# EAGLE library part AD7175-2BRUZ (library AD7175-2BRUZ)
Analog Devices AD7175-2BRUZ, 24 bit DSP, Microwire, QSPI, SPI ADC, Dual Differential Input, 24-Pin TSSOP Source: Datasheet <https://www.analog.com/media/en/technical-documentation/data-sheets/ad7175-2.pdf>
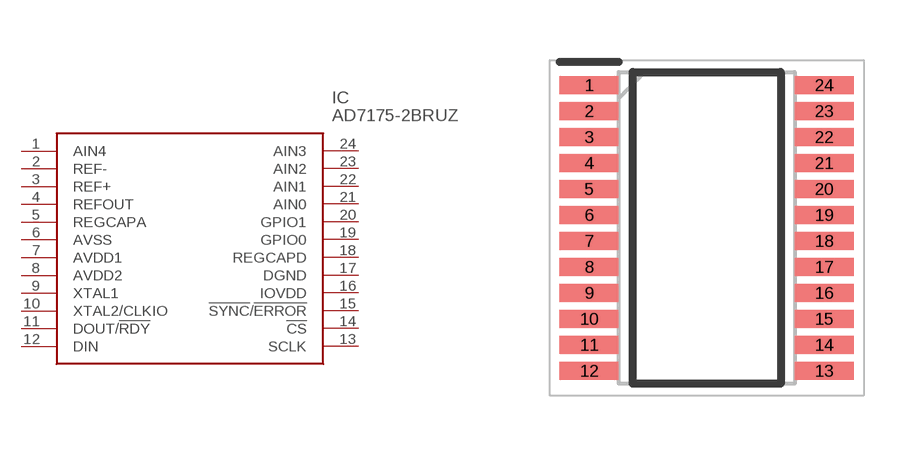
[diagram p0: symbol with the pads of SOP65P640X120-24N; footprint SOP65P640X120-24N]

Designator prefix IC

## AD7175-2BRUZ (Description: Analog Devices AD7175-2BRUZ, 24 bit DSP, Microwire, QSPI, SPI ADC, Dual Differential Input, 24-Pin TSSOP; Height: 1.2mm; Manufacturer_Name: Analog Devices; Manufacturer_Part_Number: AD7175-2BRUZ; Mouser_Part_Number: 584-AD7175-2BRUZ; Mouser_Price-Stock: https://www.mouser.co.uk/ProductDetail/Analog-Devices/AD7175-2BRUZ?qs=edjv0jo2O1ZYeO73Tf3Ohw%3D%3D)  [SOP65P640X120-24N]
1  AIN4
2  REF-
3  REF+
4  REFOUT
5  REGCAPA
6  AVSS
7  AVDD1
8  AVDD2
9  XTAL1
10  XTAL2/CLKIO
11  DOUT/!RDY
12  DIN
13  SCLK
14  !CS
15  !SYNC!/!ERROR
16  IOVDD
17  DGND
18  REGCAPD
19  GPIO0
20  GPIO1
21  AIN0
22  AIN1
23  AIN2
24  AIN3

## Footprint SOP65P640X120-24N (pad centres in mm)
AD7175-2BRUZ
smd 1.475 x 0.45: 1 -2.938,3.575; 2 -2.938,2.925; 3 -2.938,2.275; 4 -2.938,1.625; 5 -2.938,0.975; 6 -2.938,0.325; 7 -2.938,-0.325; 8 -2.938,-0.975; 9 -2.938,-1.625; 10 -2.938,-2.275; 11 -2.938,-2.925; 12 -2.938,-3.575; 13 2.938,-3.575; 14 2.938,-2.925; 15 2.938,-2.275; 16 2.938,-1.625; 17 2.938,-0.975; 18 2.938,-0.325; 19 2.938,0.325; 20 2.938,0.975; 21 2.938,1.625; 22 2.938,2.275; 23 2.938,2.925; 24 2.938,3.575